# Altium footprint library Micro-Fit 2way dual row RA header.PcbLib: 1 footprints
Each footprint in its own frame and in the unit in brackets; x right, y up, seen from the top. Pads: shape width x height; smd on the part's side, far side on the other; paste and mask are expansions set on the pad; w line width, h text height; cw(c..) or ccw(c..) is an arc to the next point about the centre after c.
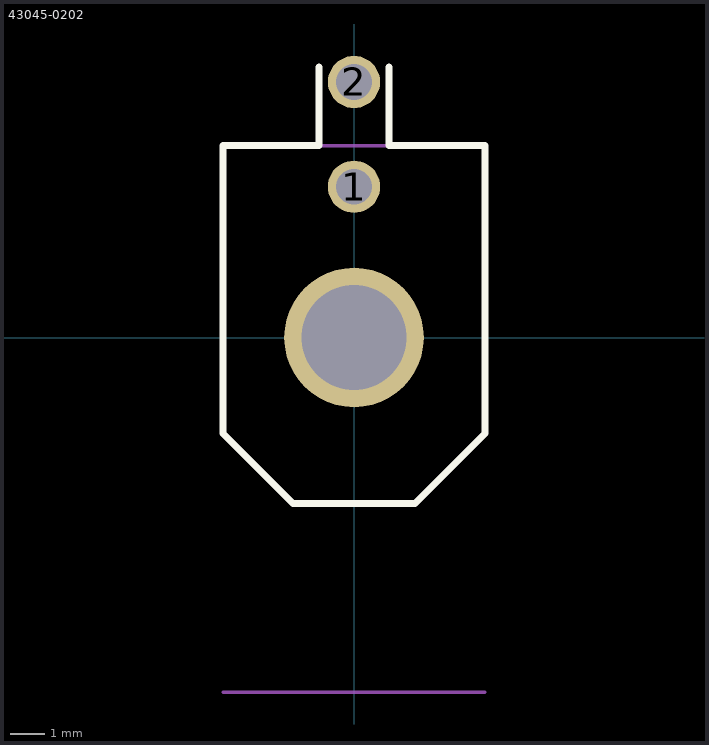
[diagram p0: the footprint, top view; thin cyan lines are the x and y axes]

## 43045-0202 [mm] "Molex Micro-Fit 2way dual row header"
height 8.87
pads (3):
  round 1.5 hole 1.02: 1(0,4.32) 2(0,7.32)
  round 4 hole 3: ""(0,0)
Top Overlay:
  lines w0.2: -1,7.75 -1,5.5 -3.75,5.5 -3.75,4.25 -3.75,-2.75 -1.75,-4.75 1.75,-4.75 3.75,-2.75 3.75,4.25 3.75,5.5 1,5.5 1,7.75
Mechanical 13:
  lines w0.1: -3.75,-2.75 -1.75,-4.75 1.75,-4.75 3.75,-2.75 3.75,5.5 -1,5.5 -3.75,5.5 -3.75,-2.75
Mechanical 15:
  lines w0.1: -3.75,-10.16 3.75,-10.16
3D body: height 8.88, standoff -3.07, extent -3.575,-4.62 3.575,7.62